# EAGLE library part DE0NANO (library lstolcman_thesis)
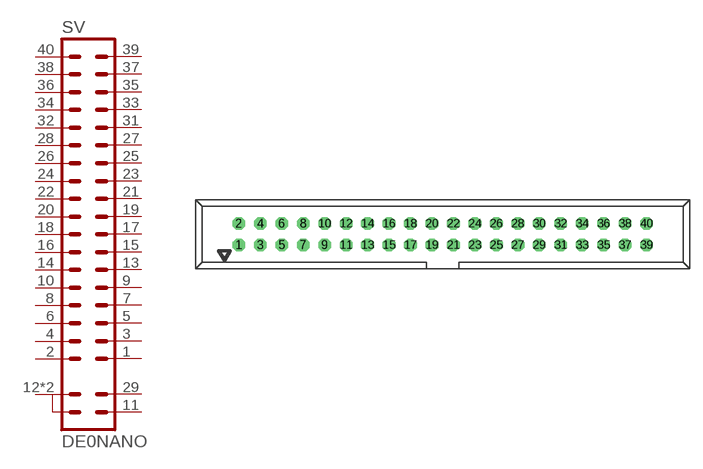
[diagram p2: symbol with the pads of 2X20; footprint 2X20]

Designator prefix SV

## DE0NANO  [2X20]
1  GPIO_0_IN0_1  in
2  GPIO_00_2
3  GPIO_0_IN1_3  in
4  GPIO_01_4
5  GPIO_02_5
6  GPIO_03_6
7  GPIO_04_7
8  GPIO_05_8
9  GPIO_06_9
10  GPIO_07_10
11  VCC_SYS_11  pwr
12  GND_12  pwr
13  GPIO_08_13
14  GPIO_09_14
15  GPIO_010_15
16  GPIO_11_16
17  GPIO_012_17
18  GPIO_13_18
19  GPIO_014_19
20  GPIO_15_20
21  GPIO_016_21
22  GPIO_17_22  oc
23  GPIO_018_23
24  GPIO_19_24
25  GPIO_020_25
26  GPIO_21_26
27  GPIO_022_27
28  GPIO_23_28
29  VCC3P3_29  pwr
30  GND_12  pwr
31  GPIO_024_31
32  GPIO_25_32
33  GPIO_026_33
34  GPIO_27_34
35  GPIO_028_35
36  GPIO_29_36
37  GPIO_030_37
38  GPIO_31_38
39  GPIO_032_39
40  GPIO_33_40

## Footprint 2X20 (pad centres in mm)
drill 1 octagon: 1 -24.13,-1.27; 2 -24.13,1.27; 3 -21.59,-1.27; 4 -21.59,1.27; 5 -19.05,-1.27; 6 -19.05,1.27; 7 -16.51,-1.27; 8 -16.51,1.27; 9 -13.97,-1.27; 10 -13.97,1.27; 11 -11.43,-1.27; 12 -11.43,1.27; 13 -8.89,-1.27; 14 -8.89,1.27; 15 -6.35,-1.27; 16 -6.35,1.27; 17 -3.81,-1.27; 18 -3.81,1.27; 19 -1.27,-1.27; 20 -1.27,1.27; 21 1.27,-1.27; 22 1.27,1.27; 23 3.81,-1.27; 24 3.81,1.27; 25 6.35,-1.27; 26 6.35,1.27; 27 8.89,-1.27; 28 8.89,1.27; 29 11.43,-1.27; 30 11.43,1.27; 31 13.97,-1.27; 32 13.97,1.27; 33 16.51,-1.27; 34 16.51,1.27; 35 19.05,-1.27; 36 19.05,1.27; 37 21.59,-1.27; 38 21.59,1.27; 39 24.13,-1.27; 40 24.13,1.27